# Altium schematic symbol library 25M20P2.SchLib: 1 symbol
Pins are listed as number, name and electrical type; pins without a type are passive.

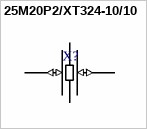
[diagram p0: symbol 25M20P2/XT324-10/10]

## 25M20P2/XT324-10/10
designator X?
footprint 25M20P2/XT324-10/10 (DFN, 4-Leads, Body 3.20x2.50mm, Pitch 1.60mm, IPC Medium Density)
pins: 1 (io), 2 (power), 3 (io), 4 (power)